# Altium footprint library MAX1555EZK+T.PcbLib: 1 footprints
Each footprint in its own frame and in the unit in brackets; x right, y up, seen from the top. Pads: shape width x height; smd on the part's side, far side on the other; paste and mask are expansions set on the pad; w line width, h text height; cw(c..) or ccw(c..) is an arc to the next point about the centre after c.
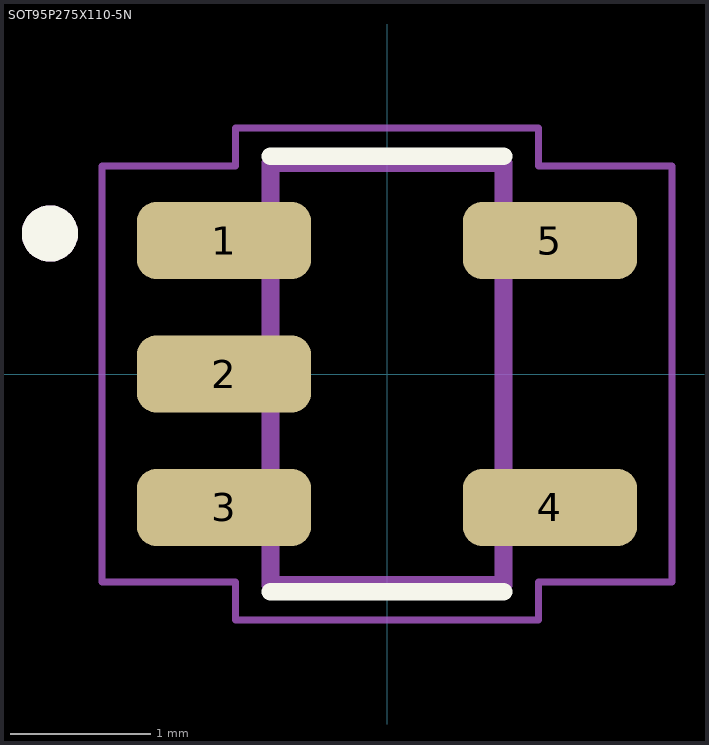
[diagram p0: the footprint, top view; thin cyan lines are the x and y axes]

## SOT95P275X110-5N [mm]
pads (5):
  rrect50% 1.24x0.55 smd: 1(-1.16,0.95) 2(-1.16,0) 3(-1.16,-0.95) 4(1.16,-0.95) 5(1.16,0.95)
Top Overlay:
  circle w0.2: c-2.4,1 r0.1
  lines w0.127: -0.83,-1.55 0.83,-1.55 ; -0.83,1.55 0.83,1.55
Mechanical 13:
  circle w0.2: c-2.4,1 r0.1
  lines w0.127: -0.83,-1.5 0.83,-1.5 0.83,1.5 -0.83,1.5 -0.83,-1.5
Mechanical 15:
  lines w0.05: -2.03,-1.48 -2.03,1.48 -1.08,1.48 -1.08,1.75 1.08,1.75 1.08,1.48 2.03,1.48 2.03,-1.48 1.08,-1.48 1.08,-1.75 -1.08,-1.75 -1.08,-1.48 -2.03,-1.48